# EAGLE library part TMP421 (library Schuyler)
Remote and local temperature sensor (+/- 1C) from TI. TMP421. http://www.ti.com/lit/ds/symlink/tmp421.pdf
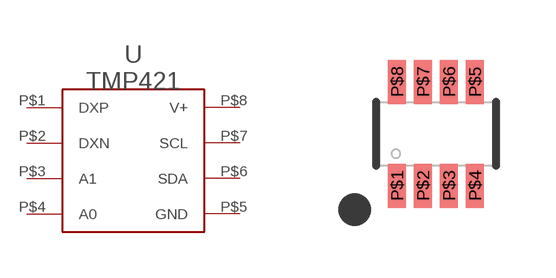
[diagram p17: symbol with the pads of SOT23-8; footprint SOT23-8]

Designator prefix -

## TMP421 (MANPARTNUMBER: TMP421AIDCNT; MANUFACTURER: Texas Instruments; PARTNUMBER: 296-21990-1-ND; SUPPLIER: DIGIKEY; VERIFIED: FALSE)  [SOT23-8]
P$1  DXP
P$2  DXN
P$3  A1  in
P$4  A0  in
P$5  GND  pwr
P$6  SDA
P$7  SCL  in
P$8  V+  pwr

## Footprint SOT23-8 (pad centres in mm)
SOT23-8 package from TI described here: http://www.ti.com/lit/ds/symlink/tmp421.pdf
smd 0.45 x 1.1: P$1 -0.975,-1.3; P$2 -0.325,-1.3; P$3 0.325,-1.3; P$4 0.975,-1.3; P$5 0.975,1.3; P$6 0.325,1.3; P$7 -0.325,1.3; P$8 -0.975,1.3